# Altium footprint library 3dparts.PcbLib: 27 footprints (part 2 of 2)
Each footprint in its own frame and in the unit in brackets; x right, y up, seen from the top. Pads: shape width x height; smd on the part's side, far side on the other; paste and mask are expansions set on the pad; w line width, h text height; cw(c..) or ccw(c..) is an arc to the next point about the centre after c.
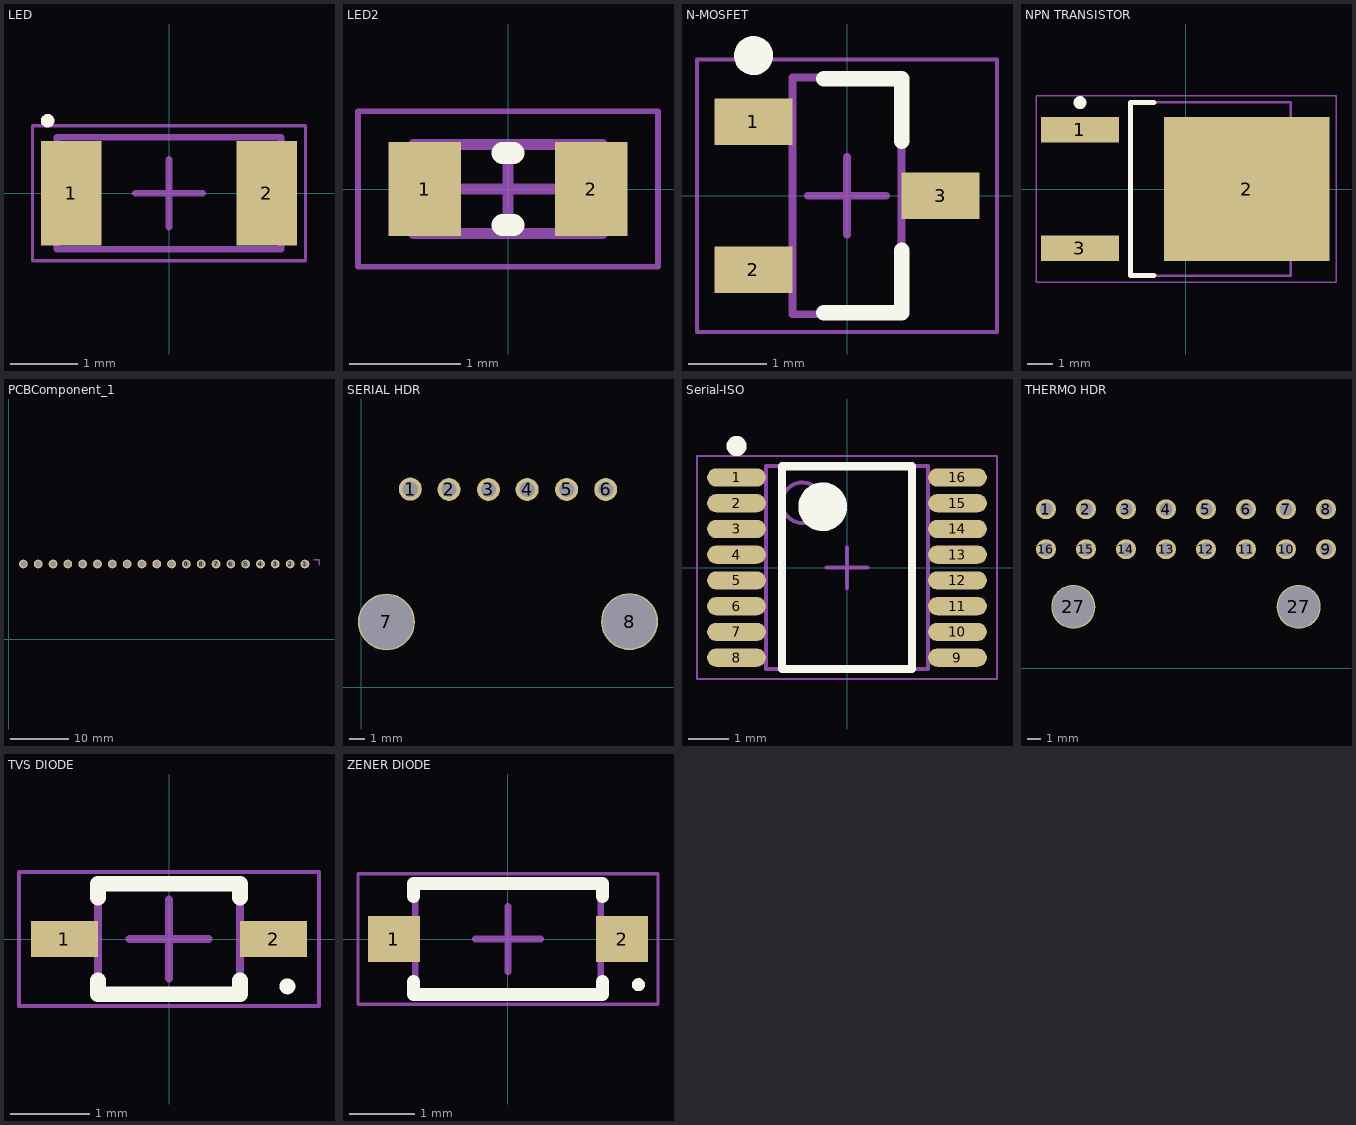
[diagram p1: the footprints below, top view; thin cyan lines are the x and y axes]

## LED [mm] "516-1443-1-ND"
height 1.14
pads (2):
  rect 0.9x1.55 smd: 1(-1.45,0) 2(1.45,0)
Top Overlay:
  circle w0.1: c-1.8,1.075 r0.05
Mechanical 13:
  lines w0.1: -1.665,-0.83 -1.665,0.83 1.665,0.83 1.665,-0.83 -1.665,-0.83
Mechanical 15:
  lines w0.05: -2.025,-1 -2.025,1 2.025,1 2.025,-1 -2.025,-1
  lines w0.1: -0.5,0 0.5,0 ; 0,-0.5 0,0.5
3D body: height 1.14, standoff 0, extent -1.665,-0.83 1.665,0.83

## LED2 [mm] "Chip Capacitor, 2-Leads, Body 1.60x0.70mm, IPC Medium Density"
height 0.8
pads (2):
  rect 0.65x0.85 smd: 1(-0.75,0) 2(0.75,0)
Top Overlay:
  lines w0.2: -0.05,-0.325 0.05,-0.325 ; -0.05,0.325 0.05,0.325
Mechanical 13:
  lines w0.1: -0.85,-0.4 -0.85,0.4 0.85,0.4 0.85,-0.4 -0.85,-0.4
Mechanical 15:
  lines w0.05: -1.35,-0.7 -1.35,0.7 1.35,0.7 1.35,-0.7 -1.35,-0.7
  lines w0.1: -0.4,0 0.4,0 ; 0,-0.4 0,0.4
3D body "CAPC1607X08N.step": height 0.8, standoff 0, extent -0.85,-0.4 0.85,0.4

## N-MOSFET [mm] "2V7002K"
height 1.11
pads (3):
  rect 1x0.6 smd: 1(-1.2,0.95) 2(-1.2,-0.95) 3(1.2,0)
Top Overlay:
  circle w0.25: c-1.2,1.8 r0.125
  lines w0.2: -0.3,-1.5 0.7,-1.5 0.7,-0.7 ; -0.3,1.5 0.7,1.5 0.7,0.7
Mechanical 13:
  lines w0.1: -0.7,-1.52 0.7,-1.52 0.7,1.52 -0.7,1.52 -0.7,-1.52
Mechanical 15:
  lines w0.05: -1.925,-1.75 1.925,-1.75 1.925,1.75 -1.925,1.75 -1.925,-1.75
  lines w0.1: -0.5,0 0.5,0 ; 0,-0.5 0,0.5
3D body: height 1.11, standoff 0.1, extent -0.7,-1.52 0.7,1.52

## NPN TRANSISTOR [mm] "ZXTN4004KTCDICT-ND"
height 2.39
pads (3):
  rect 3x1 smd: 1(-4.1,2.29) 3(-4.1,-2.29)
  rect 6.4x5.55 smd: 2(2.35,0)
Top Overlay:
  circle w0.25: c-4.1,3.34 r0.125
  lines w0.2: -1.25,-3.35 -2.15,-3.35 -2.15,3.35 -1.25,3.35
Mechanical 13:
  lines w0.1: -2.15,-3.35 4.05,-3.35 4.05,3.35 -2.15,3.35 -2.15,-3.35
Mechanical 15:
  lines w0.05: -5.8,-3.6 5.8,-3.6 5.8,3.6 -5.8,3.6 -5.8,-3.6
  lines w0.1: -0.5,0 0.5,0 ; 0,-0.5 0,0.5
3D body: height 2.39, standoff 0.13, extent -2.15,-3.35 4.05,3.35

## PCBComponent_1 [mm]
pads (20):
  round 1.5 hole 1: 1(50.8,12.9) 2(48.26,12.9) 3(45.72,12.9) 4(43.18,12.9) 5(40.64,12.9) 6(38.1,12.9) 7(35.56,12.9) 8(33.02,12.9) 9(30.48,12.9) 10(27.94,12.9) 11(25.4,12.9) 12(22.86,12.9) 13(20.32,12.9) 14(17.78,12.9) 15(15.24,12.9) 16(12.7,12.9) 17(10.16,12.9) 18(7.62,12.9) 19(5.08,12.9) 20(2.54,12.9)
Mechanical 1:
  lines w0.254: 52.29,13.59 53.21,13.59 53.21,12.67
3D body "20POS.stp": height 6.56, standoff -3.72, extent 0,0 53.34,13.589

## PCBComponent_1 - duplicate [mm]

## SERIAL HDR [mm]
pads (8):
  round 1.5 hole 1: 1(3.175,12.878) 2(5.69,12.852) 3(8.255,12.852) 4(10.77,12.852) 5(13.335,12.852) 6(15.875,12.852)
  round 3.7 hole 3.5: 7(1.626,4.242) 8(17.424,4.267)
3D body "6POS.stp": height 6.56, standoff -3.72, extent 0,0.006 19.05,13.594

## Serial-ISO [mm] "SOP, 16-Leads, Body 4.91x3.90mm, Pitch 0.64mm, IPC Medium Density"
height 1.75
pads (16):
  oval 1.45x0.45 smd: 1(-2.725,2.222) 2(-2.725,1.587) 3(-2.725,0.953) 4(-2.725,0.318) 5(-2.725,-0.318) 6(-2.725,-0.953) 7(-2.725,-1.587) 8(-2.725,-2.222) 9(2.725,-2.222) 10(2.725,-1.587) 11(2.725,-0.953) 12(2.725,-0.318) 13(2.725,0.318) 14(2.725,0.953) 15(2.725,1.587) 16(2.725,2.222)
Top Overlay:
  circle w0.6: c-0.6,1.5 r0.3
  circle w0.25: c-2.725,2.997 r0.125
  lines w0.2: -1.6,-2.5 1.6,-2.5 1.6,2.5 -1.6,2.5 -1.6,-2.5
Mechanical 13:
  circle w0.1: c-1.1,1.6 r0.5
  lines w0.1: -2,-2.5 2,-2.5 2,2.5 -2,2.5 -2,-2.5
Mechanical 15:
  lines w0.05: -3.7,-2.75 3.7,-2.75 3.7,2.75 -3.7,2.75 -3.7,-2.75
  lines w0.1: -0.5,0 0.5,0 ; 0,-0.5 0,0.5
3D body "SOP64P600X175-16N.step": height 1.75, standoff 0, extent -2.997,-2.5 2.997,2.5

## THERMO HDR [mm]
pads (18):
  round 1.5 hole 1: 1(3.5,11.92) 2(6.5,11.92) 3(9.5,11.92) 4(12.5,11.92) 5(15.5,11.92) 6(18.5,11.92) 7(21.5,11.92) 8(24.5,11.92) 9(24.5,8.92) 10(21.5,8.92) 11(18.5,8.92) 12(15.5,8.92) 13(12.5,8.92) 14(9.5,8.92) 15(6.5,8.92) 16(3.5,8.92)
  round 3.3 hole 3.1: 27(5.55,4.6) 27(22.45,4.6)
3D body "c-4-794619-6-h-3d.stp": height 8.73, standoff -3.45, extent 0,0 28,12.24

## TVS DIODE [mm] "1727-4155-1-ND"
height 1.1
pads (2):
  rect 0.85x0.45 smd: 1(-1.325,0) 2(1.325,0)
Top Overlay:
  circle w0.1: c1.5,-0.6 r0.05
  lines w0.2: -0.9,-0.525 -0.9,-0.7 0.9,-0.7 0.9,-0.525 ; -0.9,0.525 -0.9,0.7 0.9,0.7 0.9,0.525
Mechanical 13:
  lines w0.1: -0.9,-0.675 0.9,-0.675 0.9,0.675 -0.9,0.675 -0.9,-0.675
Mechanical 15:
  lines w0.05: -1.9,-0.85 1.9,-0.85 1.9,0.85 -1.9,0.85 -1.9,-0.85
  lines w0.1: -0.5,0 0.5,0 ; 0,-0.5 0,0.5
3D body: height 1.1, standoff 0, extent -0.9,-0.675 0.9,0.675

## ZENER DIODE [mm] "DDZ6V2BDICT-ND"
height 1.35
pads (2):
  rect 0.8x0.7 smd: 1(-1.75,0) 2(1.75,0)
Top Overlay:
  circle w0.1: c2,-0.7 r0.05
  lines w0.2: -1.45,-0.65 -1.45,-0.85 1.45,-0.85 1.45,-0.65 ; -1.45,0.65 -1.45,0.85 1.45,0.85 1.45,0.65
Mechanical 13:
  lines w0.1: -1.425,-0.85 -1.425,0.85 1.425,0.85 1.425,-0.85 -1.425,-0.85
Mechanical 15:
  lines w0.05: -2.3,-1 -2.3,1 2.3,1 2.3,-1 -2.3,-1
  lines w0.1: -0.5,0 0.5,0 ; 0,-0.5 0,0.5
3D body: height 1.35, standoff 0, extent -1.425,-0.85 1.425,0.85